# EAGLE library part H24TM84A (library mastrogippo)
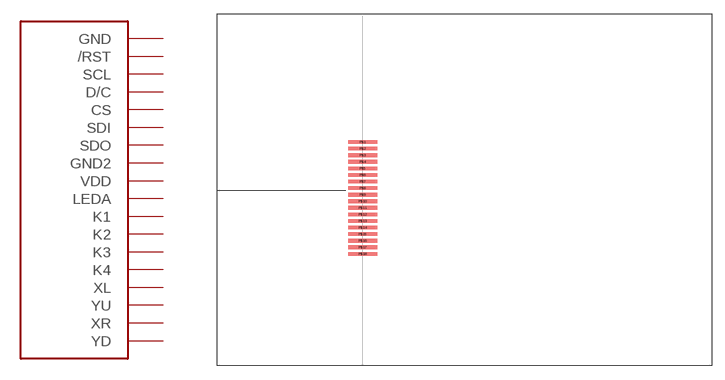
[diagram p31: symbol with the pads of H24TM84A; footprint H24TM84A]

Designator prefix -

## H24TM84A  [H24TM84A]
P$1  GND
P$2  /RST
P$3  SCL
P$4  D/C
P$5  CS
P$6  SDI
P$7  SDO
P$8  GND2
P$9  VDD
P$10  LEDA
P$11  K1
P$12  K2
P$13  K3
P$14  K4
P$15  XL
P$16  YU
P$17  XR
P$18  YD

## Footprint H24TM84A (pad centres in mm)
smd 3.5 x 0.45: P$1 17.75,27.18; P$2 17.75,26.38; P$3 17.75,25.58; P$4 17.75,24.78; P$5 17.75,23.98; P$6 17.75,23.18; P$7 17.75,22.38; P$8 17.75,21.58; P$9 17.75,20.78; P$10 17.75,19.98; P$11 17.75,19.18; P$12 17.75,18.38; P$13 17.75,17.58; P$14 17.75,16.78; P$15 17.75,15.98; P$16 17.75,15.18; P$17 17.75,14.38; P$18 17.75,13.58